# Altium schematic symbol library memory.SCHLIB: 86 symbols
Pins are listed as number, name and electrical type; pins without a type are passive.

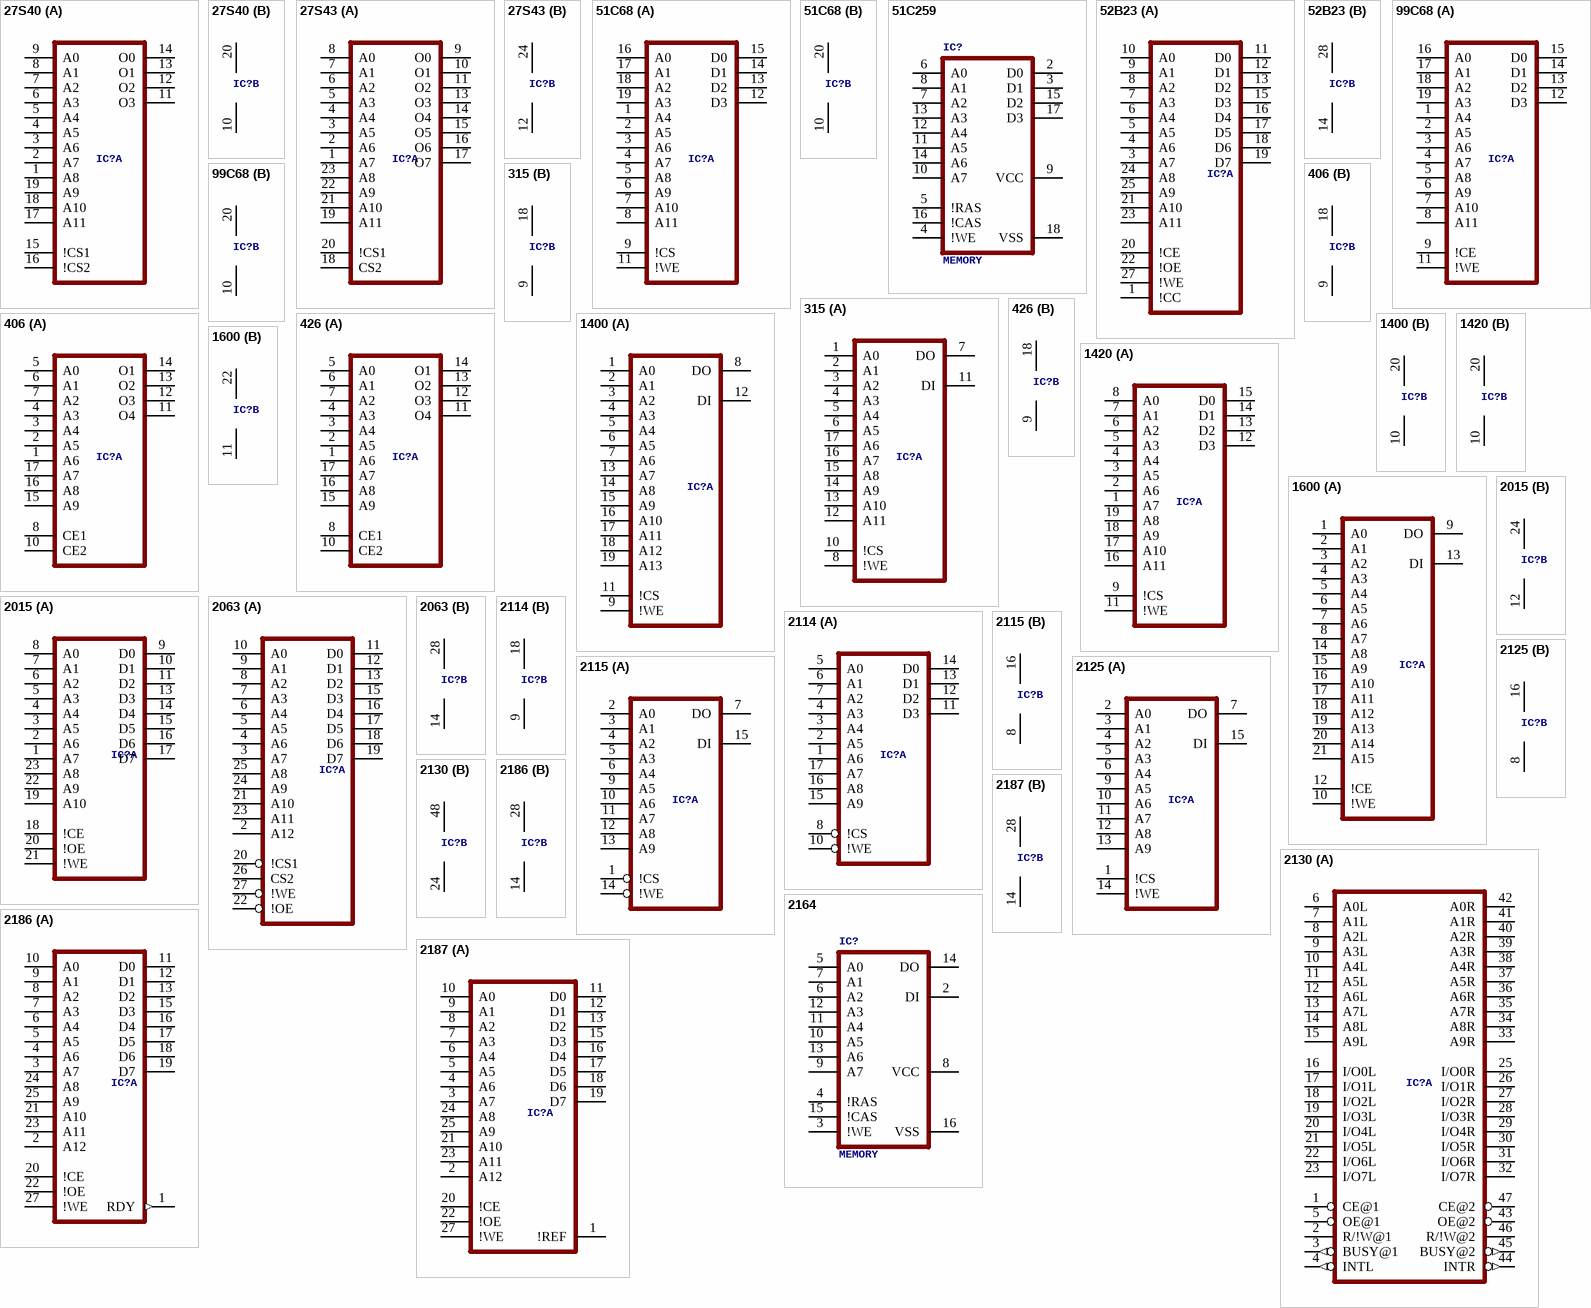
[diagram p0: symbols 27S40 to 2187]

## 27S40
designator IC?, comment MEMORY  (value not drawn)
footprint DIL20
part A pins: 1 A8, 2 A7, 3 A6, 4 A5, 5 A4, 6 A3, 7 A2, 8 A1, 9 A0, 11 O3 (oc), 12 O2 (oc), 13 O1 (oc), 14 O0 (oc), 15 !CS1, 16 !CS2, 17 A11, 18 A10, 19 A9
part B pins: 10 GND (power), 20 VCC (power)

## 27S43
designator IC?, comment MEMORY  (value not drawn)
footprint DIL24
part A pins: 1 A7, 2 A6, 3 A5, 4 A4, 5 A3, 6 A2, 7 A1, 8 A0, 9 O0 (hiz), 10 O1 (hiz), 11 O2 (hiz), 13 O3 (hiz), 14 O4 (hiz), 15 O5 (hiz), 16 O6 (hiz), 17 O7 (hiz), 18 CS2, 19 A11, 20 !CS1, 21 A10, 22 A9, 23 A8
part B pins: 12 GND (power), 24 VCC (power)

## 51C68
designator IC?, comment MEMORY  (value not drawn)
footprint DIL20
part A pins: 1 A4, 2 A5, 3 A6, 4 A7, 5 A8, 6 A9, 7 A10, 8 A11, 9 !CS, 11 !WE, 12 D3, 13 D2, 14 D1, 15 D0, 16 A0, 17 A1, 18 A2, 19 A3
part B pins: 10 GND (power), 20 VCC (power)

## 51C259
designator IC?, comment MEMORY
footprint DIL18
pins: 2 D0, 3 D1, 4 !WE, 5 !RAS, 6 A0, 7 A2, 8 A1, 9 VCC (power), 10 A7, 11 A5, 12 A4, 13 A3, 14 A6, 15 D2, 16 !CAS, 17 D3, 18 VSS (power)

## 52B23
designator IC?, comment MEMORY  (value not drawn)
footprint DIL28
part A pins: 1 !CC, 3 A7, 4 A6, 5 A5, 6 A4, 7 A3, 8 A2, 9 A1, 10 A0, 11 D0, 12 D1, 13 D2, 15 D3, 16 D4, 17 D5, 18 D6, 19 D7, 20 !CE, 21 A10, 22 !OE, 23 A11, 24 A8, 25 A9, 27 !WE
part B pins: 14 GND (power), 28 VCC (power)

## 99C68
designator IC?, comment MEMORY  (value not drawn)
footprint DIL20
part A pins: 1 A4, 2 A5, 3 A6, 4 A7, 5 A8, 6 A9, 7 A10, 8 A11, 9 !CE, 11 !WE, 12 D3, 13 D2, 14 D1, 15 D0, 16 A0, 17 A1, 18 A2, 19 A3
part B pins: 10 GND (power), 20 VCC (power)

## 315
designator IC?, comment MEMORY  (value not drawn)
footprint DIL18
part A pins: 1 A0, 2 A1, 3 A2, 4 A3, 5 A4, 6 A5, 7 DO (hiz), 8 !WE, 10 !CS, 11 DI, 12 A11, 13 A10, 14 A9, 15 A8, 16 A7, 17 A6
part B pins: 9 GND (power), 18 VCC (power)

## 406
designator IC?, comment MEMORY  (value not drawn)
footprint DIL18
part A pins: 1 A6, 2 A5, 3 A4, 4 A3, 5 A0, 6 A1, 7 A2, 8 CE1, 10 CE2, 11 O4 (oc), 12 O3 (oc), 13 O2 (oc), 14 O1 (oc), 15 A9, 16 A8, 17 A7
part B pins: 9 GND (power), 18 VCC (power)

## 426
designator IC?, comment MEMORY  (value not drawn)
footprint DIL18
part A pins: 1 A6, 2 A5, 3 A4, 4 A3, 5 A0, 6 A1, 7 A2, 8 CE1, 10 CE2, 11 O4 (hiz), 12 O3 (hiz), 13 O2 (hiz), 14 O1 (hiz), 15 A9, 16 A8, 17 A7
part B pins: 9 GND (power), 18 VCC (power)

## 1400
designator IC?, comment MEMORY  (value not drawn)
footprint DIL20
part A pins: 1 A0, 2 A1, 3 A2, 4 A3, 5 A4, 6 A5, 7 A6, 8 DO (hiz), 9 !WE, 11 !CS, 12 DI, 13 A7, 14 A8, 15 A9, 16 A10, 17 A11, 18 A12, 19 A13
part B pins: 10 GND (power), 20 VCC (power)

## 1420
designator IC?, comment MEMORY  (value not drawn)
footprint DIL20
part A pins: 1 A7, 2 A6, 3 A5, 4 A4, 5 A3, 6 A2, 7 A1, 8 A0, 9 !CS, 11 !WE, 12 D3, 13 D2, 14 D1, 15 D0, 16 A11, 17 A10, 18 A9, 19 A8
part B pins: 10 GND (power), 20 VCC (power)

## 1600
designator IC?, comment MEMORY  (value not drawn)
footprint DIL22-3
part A pins: 1 A0, 2 A1, 3 A2, 4 A3, 5 A4, 6 A5, 7 A6, 8 A7, 9 DO (hiz), 10 !WE, 12 !CE, 13 DI, 14 A8, 15 A9, 16 A10, 17 A11, 18 A12, 19 A13, 20 A14, 21 A15
part B pins: 11 GND (power), 22 VCC (power)

## 2015
designator IC?, comment MEMORY  (value not drawn)
footprint DIL24
part A pins: 1 A7, 2 A6, 3 A5, 4 A4, 5 A3, 6 A2, 7 A1, 8 A0, 9 D0, 10 D1, 11 D2, 13 D3, 14 D4, 15 D5, 16 D6, 17 D7, 18 !CE, 19 A10, 20 !OE, 21 !WE, 22 A9, 23 A8
part B pins: 12 GND (power), 24 VCC (power)

## 2063
designator IC?, comment MEMORY  (value not drawn)
footprint DIL28
part A pins: 2 A12, 3 A7, 4 A6, 5 A5, 6 A4, 7 A3, 8 A2, 9 A1, 10 A0, 11 D0, 12 D1, 13 D2, 15 D3, 16 D4, 17 D5, 18 D6, 19 D7, 20 !CS1, 21 A10, 22 !OE, 23 A11, 24 A9, 25 A8, 26 CS2, 27 !WE
part B pins: 14 GND (power), 28 VCC (power)

## 2114
designator IC?, comment MEMORY  (value not drawn)
footprint DIL18
part A pins: 1 A6, 2 A5, 3 A4, 4 A3, 5 A0, 6 A1, 7 A2, 8 !CS, 10 !WE, 11 D3, 12 D2, 13 D1, 14 D0, 15 A9, 16 A8, 17 A7
part B pins: 9 GND (power), 18 VCC (power)

## 2115
designator IC?, comment MEMORY  (value not drawn)
footprint DIL16
part A pins: 1 !CS, 2 A0, 3 A1, 4 A2, 5 A3, 6 A4, 7 DO (oc), 9 A5, 10 A6, 11 A7, 12 A8, 13 A9, 14 !WE, 15 DI
part B pins: 8 GND (power), 16 VCC (power)

## 2125
designator IC?, comment MEMORY  (value not drawn)
footprint DIL16
part A pins: 1 !CS, 2 A0, 3 A1, 4 A2, 5 A3, 6 A4, 7 DO (hiz), 9 A5, 10 A6, 11 A7, 12 A8, 13 A9, 14 !WE, 15 DI
part B pins: 8 GND (power), 16 VCC (power)

## 2130
designator IC?, comment MEMORY  (value not drawn)
footprint DIL48
part A pins: 1 CE@1, 2 R/!W@1, 3 BUSY@1 (out), 4 INTL (out), 5 OE@1, 6 A0L, 7 A1L, 8 A2L, 9 A3L, 10 A4L, 11 A5L, 12 A6L, 13 A7L, 14 A8L, 15 A9L, 16 I/O0L, 17 I/O1L, 18 I/O2L, 19 I/O3L, 20 I/O4L, 21 I/O5L, 22 I/O6L, 23 I/O7L, 25 I/O0R, 26 I/O1R, 27 I/O2R, 28 I/O3R, 29 I/O4R, 30 I/O5R, 31 I/O6R, 32 I/O7R, 33 A9R, 34 A8R, 35 A7R, 36 A6R, 37 A5R, 38 A4R, 39 A3R, 40 A2R, 41 A1R, 42 A0R, 43 OE@2, 44 INTR (out), 45 BUSY@2 (out), 46 R/!W@2, 47 CE@2
part B pins: 24 GND (power), 48 VCC (power)

## 2164
designator IC?, comment MEMORY
footprint DIL16
pins: 2 DI, 3 !WE, 4 !RAS, 5 A0, 6 A2, 7 A1, 8 VCC (power), 9 A7, 10 A5, 11 A4, 12 A3, 13 A6, 14 DO (hiz), 15 !CAS, 16 VSS (power)

## 2186
designator IC?, comment MEMORY  (value not drawn)
footprint DIL28
part A pins: 1 RDY (out), 2 A12, 3 A7, 4 A6, 5 A5, 6 A4, 7 A3, 8 A2, 9 A1, 10 A0, 11 D0, 12 D1, 13 D2, 15 D3, 16 D4, 17 D5, 18 D6, 19 D7, 20 !CE, 21 A10, 22 !OE, 23 A11, 24 A8, 25 A9, 27 !WE
part B pins: 14 GND (power), 28 VCC (power)

## 2187
designator IC?, comment MEMORY  (value not drawn)
footprint DIL28
part A pins: 1 !REF, 2 A12, 3 A7, 4 A6, 5 A5, 6 A4, 7 A3, 8 A2, 9 A1, 10 A0, 11 D0, 12 D1, 13 D2, 15 D3, 16 D4, 17 D5, 18 D6, 19 D7, 20 !CE, 21 A10, 22 !OE, 23 A11, 24 A8, 25 A9, 27 !WE
part B pins: 14 GND (power), 28 VCC (power)

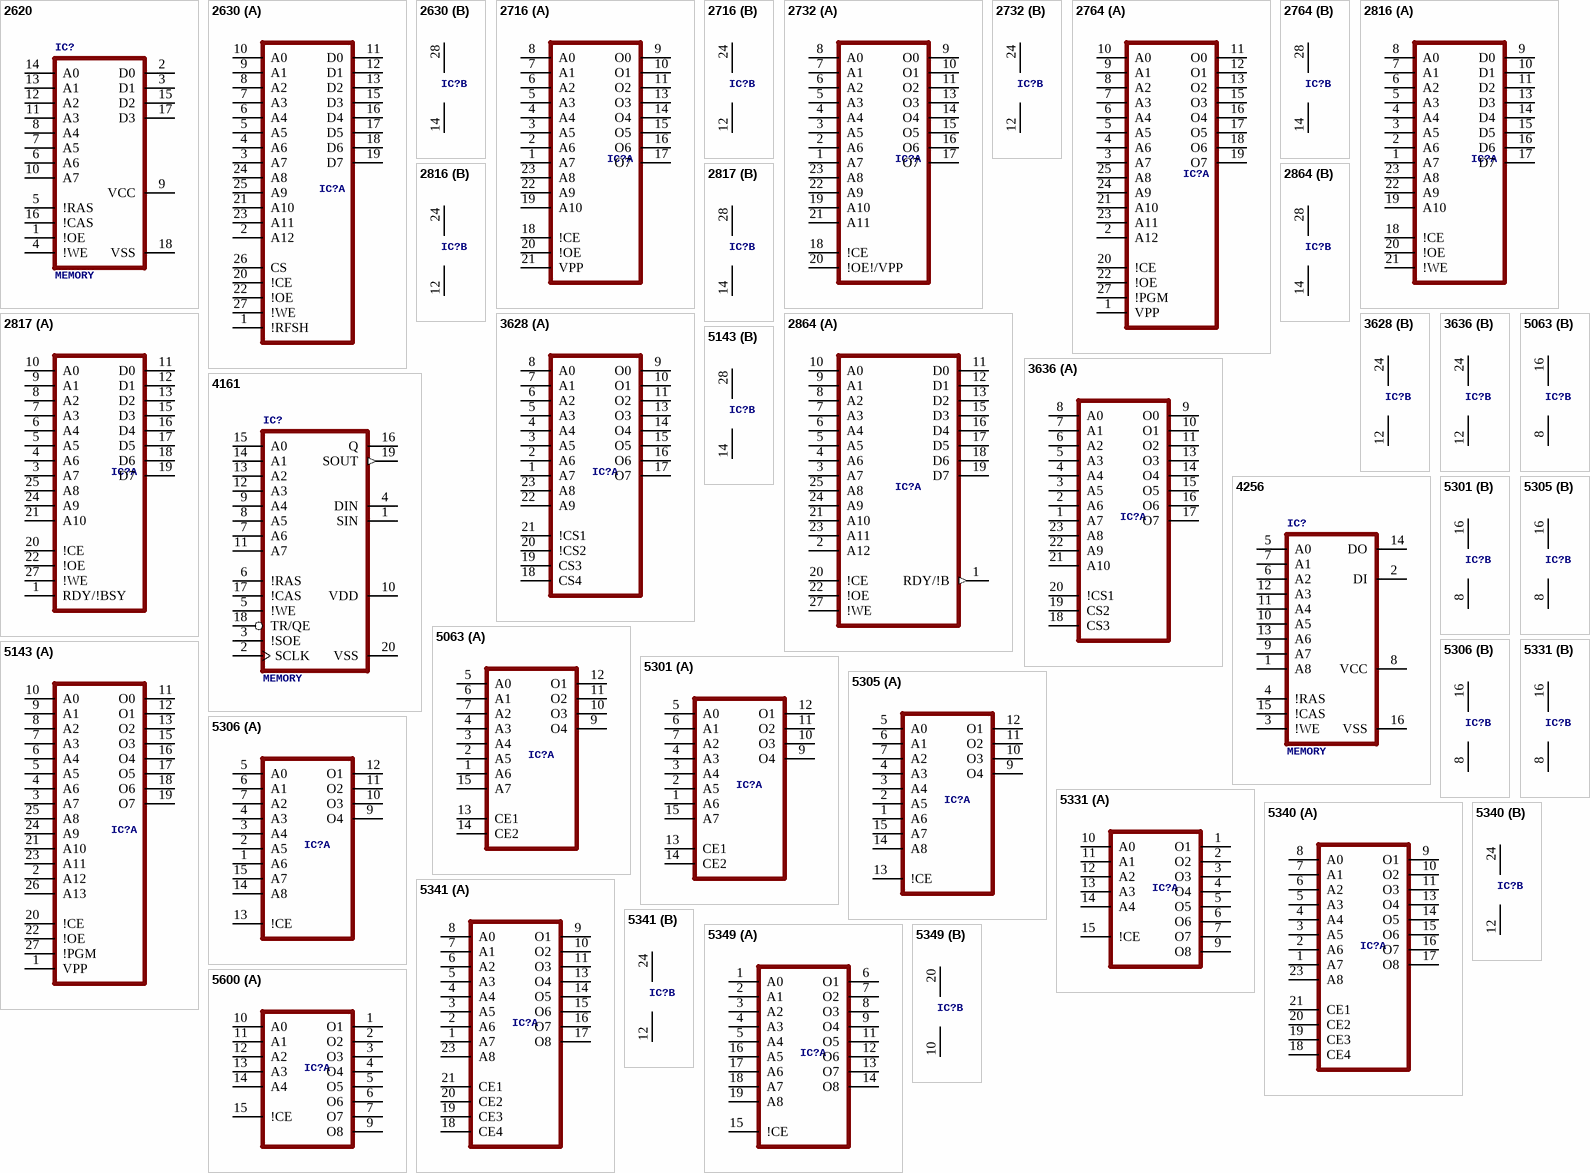
[diagram p1: symbols 2620 to 5600]

## 2620
designator IC?, comment MEMORY
footprint DIL18
pins: 1 !OE, 2 D0, 3 D1, 4 !WE, 5 !RAS, 6 A6, 7 A5, 8 A4, 9 VCC (power), 10 A7, 11 A3, 12 A2, 13 A1, 14 A0, 15 D2, 16 !CAS, 17 D3, 18 VSS (power)

## 2630
designator IC?, comment MEMORY  (value not drawn)
footprint DIL28
part A pins: 1 !RFSH, 2 A12, 3 A7, 4 A6, 5 A5, 6 A4, 7 A3, 8 A2, 9 A1, 10 A0, 11 D0, 12 D1, 13 D2, 15 D3, 16 D4, 17 D5, 18 D6, 19 D7, 20 !CE, 21 A10, 22 !OE, 23 A11, 24 A8, 25 A9, 26 CS, 27 !WE
part B pins: 14 GND (power), 28 VCC (power)

## 2716
designator IC?, comment MEMORY  (value not drawn)
footprint DIL24
part A pins: 1 A7, 2 A6, 3 A5, 4 A4, 5 A3, 6 A2, 7 A1, 8 A0, 9 O0 (hiz), 10 O1 (hiz), 11 O2 (hiz), 13 O3 (hiz), 14 O4 (hiz), 15 O5 (hiz), 16 O6 (hiz), 17 O7 (hiz), 18 !CE, 19 A10, 20 !OE, 21 VPP, 22 A9, 23 A8
part B pins: 12 GND (power), 24 VCC (power)

## 2732
designator IC?, comment MEMORY  (value not drawn)
footprint DIL24
part A pins: 1 A7, 2 A6, 3 A5, 4 A4, 5 A3, 6 A2, 7 A1, 8 A0, 9 O0 (hiz), 10 O1 (hiz), 11 O2 (hiz), 13 O3 (hiz), 14 O4 (hiz), 15 O5 (hiz), 16 O6 (hiz), 17 O7 (hiz), 18 !CE, 19 A10, 20 !OE!/VPP, 21 A11, 22 A9, 23 A8
part B pins: 12 GND (power), 24 VCC (power)

## 2764
designator IC?, comment MEMORY  (value not drawn)
footprint DIL28
part A pins: 1 VPP, 2 A12, 3 A7, 4 A6, 5 A5, 6 A4, 7 A3, 8 A2, 9 A1, 10 A0, 11 O0 (hiz), 12 O1 (hiz), 13 O2 (hiz), 15 O3 (hiz), 16 O4 (hiz), 17 O5 (hiz), 18 O6 (hiz), 19 O7 (hiz), 20 !CE, 21 A10, 22 !OE, 23 A11, 24 A9, 25 A8, 27 !PGM
part B pins: 14 GND (power), 28 VCC (power)

## 2816
designator IC?, comment MEMORY  (value not drawn)
footprint DIL24
part A pins: 1 A7, 2 A6, 3 A5, 4 A4, 5 A3, 6 A2, 7 A1, 8 A0, 9 D0, 10 D1, 11 D2, 13 D3, 14 D4, 15 D5, 16 D6, 17 D7, 18 !CE, 19 A10, 20 !OE, 21 !WE, 22 A9, 23 A8
part B pins: 12 GND (power), 24 VCC (power)

## 2817
designator IC?, comment MEMORY  (value not drawn)
footprint DIL28
part A pins: 1 RDY/!BSY, 3 A7, 4 A6, 5 A5, 6 A4, 7 A3, 8 A2, 9 A1, 10 A0, 11 D0, 12 D1, 13 D2, 15 D3, 16 D4, 17 D5, 18 D6, 19 D7, 20 !CE, 21 A10, 22 !OE, 24 A9, 25 A8, 27 !WE
part B pins: 14 GND (power), 28 VCC (power)

## 2864
designator IC?, comment MEMORY  (value not drawn)
footprint DIL28
part A pins: 1 RDY/!B (out), 2 A12, 3 A7, 4 A6, 5 A5, 6 A4, 7 A3, 8 A2, 9 A1, 10 A0, 11 D0, 12 D1, 13 D2, 15 D3, 16 D4, 17 D5, 18 D6, 19 D7, 20 !CE, 21 A10, 22 !OE, 23 A11, 24 A9, 25 A8, 27 !WE
part B pins: 14 GND (power), 28 VCC (power)

## 3628
designator IC?, comment MEMORY  (value not drawn)
footprint DIL24
part A pins: 1 A7, 2 A6, 3 A5, 4 A4, 5 A3, 6 A2, 7 A1, 8 A0, 9 O0 (hiz), 10 O1 (hiz), 11 O2 (hiz), 13 O3 (hiz), 14 O4 (hiz), 15 O5 (hiz), 16 O6 (hiz), 17 O7 (hiz), 18 CS4, 19 CS3, 20 !CS2, 21 !CS1, 22 A9, 23 A8
part B pins: 12 GND (power), 24 VCC (power)

## 3636
designator IC?, comment MEMORY  (value not drawn)
footprint DIL24
part A pins: 1 A7, 2 A6, 3 A5, 4 A4, 5 A3, 6 A2, 7 A1, 8 A0, 9 O0 (hiz), 10 O1 (hiz), 11 O2 (hiz), 13 O3 (hiz), 14 O4 (hiz), 15 O5 (hiz), 16 O6 (hiz), 17 O7 (hiz), 18 CS3, 19 CS2, 20 !CS1, 21 A10, 22 A9, 23 A8
part B pins: 12 GND (power), 24 VCC (power)

## 4161
designator IC?, comment MEMORY
footprint DIL20
pins: 1 SIN, 2 SCLK, 3 !SOE, 4 DIN, 5 !WE, 6 !RAS, 7 A6, 8 A5, 9 A4, 10 VDD (power), 11 A7, 12 A3, 13 A2, 14 A1, 15 A0, 16 Q (hiz), 17 !CAS, 18 TR/QE, 19 SOUT (out), 20 VSS (power)

## 4256
designator IC?, comment MEMORY
footprint DIL16
pins: 1 A8, 2 DI, 3 !WE, 4 !RAS, 5 A0, 6 A2, 7 A1, 8 VCC (power), 9 A7, 10 A5, 11 A4, 12 A3, 13 A6, 14 DO (hiz), 15 !CAS, 16 VSS (power)

## 5063
designator IC?, comment MEMORY  (value not drawn)
footprint DIL16
part A pins: 1 A6, 2 A5, 3 A4, 4 A3, 5 A0, 6 A1, 7 A2, 9 O4 (oc), 10 O3 (oc), 11 O2 (oc), 12 O1 (oc), 13 CE1, 14 CE2, 15 A7
part B pins: 8 GND (power), 16 VCC (power)

## 5143
designator IC?, comment MEMORY  (value not drawn)
footprint DIL28
part A pins: 1 VPP, 2 A12, 3 A7, 4 A6, 5 A5, 6 A4, 7 A3, 8 A2, 9 A1, 10 A0, 11 O0 (hiz), 12 O1 (hiz), 13 O2 (hiz), 15 O3 (hiz), 16 O4 (hiz), 17 O5 (hiz), 18 O6 (hiz), 19 O7 (hiz), 20 !CE, 21 A10, 22 !OE, 23 A11, 24 A9, 25 A8, 26 A13, 27 !PGM
part B pins: 14 GND (power), 28 VCC (power)

## 5301
designator IC?, comment MEMORY  (value not drawn)
footprint DIL16
part A pins: 1 A6, 2 A5, 3 A4, 4 A3, 5 A0, 6 A1, 7 A2, 9 O4 (hiz), 10 O3 (hiz), 11 O2 (hiz), 12 O1 (hiz), 13 CE1, 14 CE2, 15 A7
part B pins: 8 GND (power), 16 VCC (power)

## 5305
designator IC?, comment MEMORY  (value not drawn)
footprint DIL16
part A pins: 1 A6, 2 A5, 3 A4, 4 A3, 5 A0, 6 A1, 7 A2, 9 O4 (oc), 10 O3 (oc), 11 O2 (oc), 12 O1 (oc), 13 !CE, 14 A8, 15 A7
part B pins: 8 GND (power), 16 VCC (power)

## 5306
designator IC?, comment MEMORY  (value not drawn)
footprint DIL16
part A pins: 1 A6, 2 A5, 3 A4, 4 A3, 5 A0, 6 A1, 7 A2, 9 O4 (hiz), 10 O3 (hiz), 11 O2 (hiz), 12 O1 (hiz), 13 !CE, 14 A8, 15 A7
part B pins: 8 GND (power), 16 VCC (power)

## 5331
designator IC?, comment MEMORY  (value not drawn)
footprint DIL16
part A pins: 1 O1 (hiz), 2 O2 (hiz), 3 O3 (hiz), 4 O4 (hiz), 5 O5 (hiz), 6 O6 (hiz), 7 O7 (hiz), 9 O8 (hiz), 10 A0, 11 A1, 12 A2, 13 A3, 14 A4, 15 !CE
part B pins: 8 GND (power), 16 VCC (power)

## 5340
designator IC?, comment MEMORY  (value not drawn)
footprint DIL24
part A pins: 1 A7, 2 A6, 3 A5, 4 A4, 5 A3, 6 A2, 7 A1, 8 A0, 9 O1 (oc), 10 O2 (oc), 11 O3 (oc), 13 O4 (oc), 14 O5 (oc), 15 O6 (oc), 16 O7 (oc), 17 O8 (oc), 18 CE4, 19 CE3, 20 CE2, 21 CE1, 23 A8
part B pins: 12 GND (power), 24 VCC (power)

## 5341
designator IC?, comment MEMORY  (value not drawn)
footprint DIL24
part A pins: 1 A7, 2 A6, 3 A5, 4 A4, 5 A3, 6 A2, 7 A1, 8 A0, 9 O1 (hiz), 10 O2 (hiz), 11 O3 (hiz), 13 O4 (hiz), 14 O5 (hiz), 15 O6 (hiz), 16 O7 (hiz), 17 O8 (hiz), 18 CE4, 19 CE3, 20 CE2, 21 CE1, 23 A8
part B pins: 12 GND (power), 24 VCC (power)

## 5349
designator IC?, comment MEMORY  (value not drawn)
footprint DIL20
part A pins: 1 A0, 2 A1, 3 A2, 4 A3, 5 A4, 6 O1 (hiz), 7 O2 (hiz), 8 O3 (hiz), 9 O4 (hiz), 11 O5 (hiz), 12 O6 (hiz), 13 O7 (hiz), 14 O8 (hiz), 15 !CE, 16 A5, 17 A6, 18 A7, 19 A8
part B pins: 10 GND (power), 20 VCC (power)

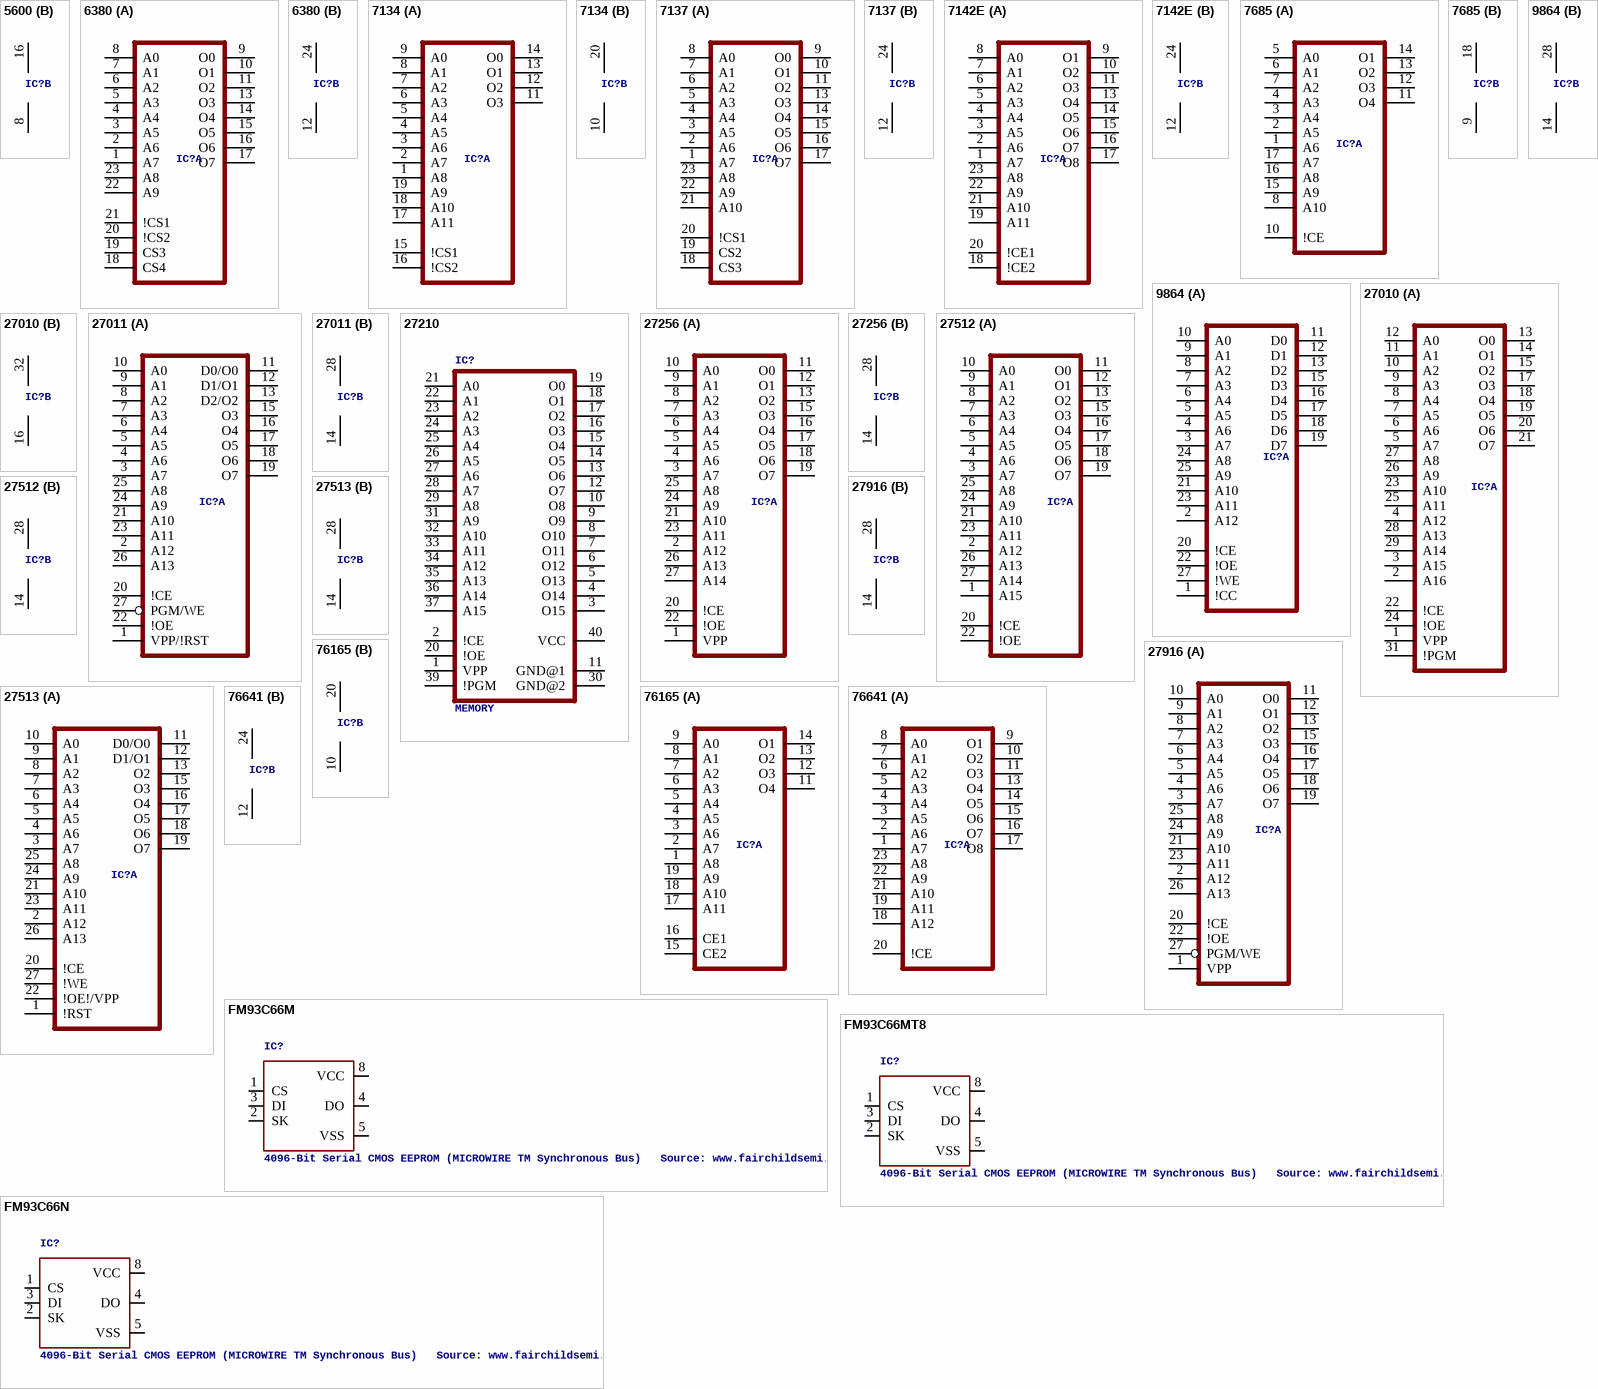
[diagram p2: symbols 5600 to FM93C66N]

## 5600
designator IC?, comment MEMORY  (value not drawn)
footprint DIL16
part A pins: 1 O1 (oc), 2 O2 (oc), 3 O3 (oc), 4 O4 (oc), 5 O5 (oc), 6 O6 (oc), 7 O7 (oc), 9 O8 (oc), 10 A0, 11 A1, 12 A2, 13 A3, 14 A4, 15 !CE
part B pins: 8 GND (power), 16 VCC (power)

## 6380
designator IC?, comment MEMORY  (value not drawn)
footprint DIL24
part A pins: 1 A7, 2 A6, 3 A5, 4 A4, 5 A3, 6 A2, 7 A1, 8 A0, 9 O0 (oc), 10 O1 (oc), 11 O2 (oc), 13 O3 (oc), 14 O4 (oc), 15 O5 (oc), 16 O6 (oc), 17 O7 (oc), 18 CS4, 19 CS3, 20 !CS2, 21 !CS1, 22 A9, 23 A8
part B pins: 12 GND (power), 24 VCC (power)

## 7134
designator IC?, comment MEMORY  (value not drawn)
footprint DIL20
part A pins: 1 A8, 2 A7, 3 A6, 4 A5, 5 A4, 6 A3, 7 A2, 8 A1, 9 A0, 11 O3 (hiz), 12 O2 (hiz), 13 O1 (hiz), 14 O0 (hiz), 15 !CS1, 16 !CS2, 17 A11, 18 A10, 19 A9
part B pins: 10 GND (power), 20 VCC (power)

## 7137
designator IC?, comment MEMORY  (value not drawn)
footprint DIL24
part A pins: 1 A7, 2 A6, 3 A5, 4 A4, 5 A3, 6 A2, 7 A1, 8 A0, 9 O0 (oc), 10 O1 (oc), 11 O2 (oc), 13 O3 (oc), 14 O4 (oc), 15 O5 (oc), 16 O6 (oc), 17 O7 (oc), 18 CS3, 19 CS2, 20 !CS1, 21 A10, 22 A9, 23 A8
part B pins: 12 GND (power), 24 VCC (power)

## 7142E
designator IC?, comment MEMORY  (value not drawn)
footprint DIL24
part A pins: 1 A7, 2 A6, 3 A5, 4 A4, 5 A3, 6 A2, 7 A1, 8 A0, 9 O1 (hiz), 10 O2 (hiz), 11 O3 (hiz), 13 O4 (hiz), 14 O5 (hiz), 15 O6 (hiz), 16 O7 (hiz), 17 O8 (hiz), 18 !CE2, 19 A11, 20 !CE1, 21 A10, 22 A9, 23 A8
part B pins: 12 GND (power), 24 VCC (power)

## 7685
designator IC?, comment MEMORY  (value not drawn)
footprint DIL18
part A pins: 1 A6, 2 A5, 3 A4, 4 A3, 5 A0, 6 A1, 7 A2, 8 A10, 10 !CE, 11 O4 (hiz), 12 O3 (hiz), 13 O2 (hiz), 14 O1 (hiz), 15 A9, 16 A8, 17 A7
part B pins: 9 GND (power), 18 VCC (power)

## 9864
designator IC?, comment MEMORY  (value not drawn)
footprint DIL28
part A pins: 1 !CC, 2 A12, 3 A7, 4 A6, 5 A5, 6 A4, 7 A3, 8 A2, 9 A1, 10 A0, 11 D0, 12 D1, 13 D2, 15 D3, 16 D4, 17 D5, 18 D6, 19 D7, 20 !CE, 21 A10, 22 !OE, 23 A11, 24 A8, 25 A9, 27 !WE
part B pins: 14 GND (power), 28 VCC (power)

## 27010
designator IC?, comment MEMORY  (value not drawn)
footprint DIL32
part A pins: 1 VPP, 2 A16, 3 A15, 4 A12, 5 A7, 6 A6, 7 A5, 8 A4, 9 A3, 10 A2, 11 A1, 12 A0, 13 O0 (hiz), 14 O1 (hiz), 15 O2 (hiz), 17 O3 (hiz), 18 O4 (hiz), 19 O5 (hiz), 20 O6 (hiz), 21 O7 (hiz), 22 !CE, 23 A10, 24 !OE, 25 A11, 26 A9, 27 A8, 28 A13, 29 A14, 31 !PGM
part B pins: 16 GND (power), 32 VCC (power)

## 27011
designator IC?, comment MEMORY  (value not drawn)
footprint DIL28
part A pins: 1 VPP/!RST, 2 A12, 3 A7, 4 A6, 5 A5, 6 A4, 7 A3, 8 A2, 9 A1, 10 A0, 11 D0/O0 (hiz), 12 D1/O1 (hiz), 13 D2/O2 (hiz), 15 O3 (hiz), 16 O4 (hiz), 17 O5 (hiz), 18 O6 (hiz), 19 O7 (hiz), 20 !CE, 21 A10, 22 !OE, 23 A11, 24 A9, 25 A8, 26 A13, 27 PGM/WE
part B pins: 14 GND (power), 28 VCC (power)

## 27210
designator IC?, comment MEMORY
footprint DIL40
pins: 1 VPP, 2 !CE, 3 O15 (hiz), 4 O14 (hiz), 5 O13 (hiz), 6 O12 (hiz), 7 O11 (hiz), 8 O10 (hiz), 9 O9 (hiz), 10 O8 (hiz), 11 GND@1 (power), 12 O7 (hiz), 13 O6 (hiz), 14 O5 (hiz), 15 O4 (hiz), 16 O3 (hiz), 17 O2 (hiz), 18 O1 (hiz), 19 O0 (hiz), 20 !OE, 21 A0, 22 A1, 23 A2, 24 A3, 25 A4, 26 A5, 27 A6, 28 A7, 29 A8, 30 GND@2 (power), 31 A9, 32 A10, 33 A11, 34 A12, 35 A13, 36 A14, 37 A15, 39 !PGM, 40 VCC (power)

## 27256
designator IC?, comment MEMORY  (value not drawn)
footprint DIL28
part A pins: 1 VPP, 2 A12, 3 A7, 4 A6, 5 A5, 6 A4, 7 A3, 8 A2, 9 A1, 10 A0, 11 O0 (hiz), 12 O1 (hiz), 13 O2 (hiz), 15 O3 (hiz), 16 O4 (hiz), 17 O5 (hiz), 18 O6 (hiz), 19 O7 (hiz), 20 !CE, 21 A10, 22 !OE, 23 A11, 24 A9, 25 A8, 26 A13, 27 A14
part B pins: 14 GND (power), 28 VCC (power)

## 27512
designator IC?, comment MEMORY  (value not drawn)
footprint DIL28
part A pins: 1 A15, 2 A12, 3 A7, 4 A6, 5 A5, 6 A4, 7 A3, 8 A2, 9 A1, 10 A0, 11 O0 (hiz), 12 O1 (hiz), 13 O2 (hiz), 15 O3 (hiz), 16 O4 (hiz), 17 O5 (hiz), 18 O6 (hiz), 19 O7 (hiz), 20 !CE, 21 A10, 22 !OE, 23 A11, 24 A9, 25 A8, 26 A13, 27 A14
part B pins: 14 GND (power), 28 VCC (power)

## 27513
designator IC?, comment MEMORY  (value not drawn)
footprint DIL28
part A pins: 1 !RST, 2 A12, 3 A7, 4 A6, 5 A5, 6 A4, 7 A3, 8 A2, 9 A1, 10 A0, 11 D0/O0 (hiz), 12 D1/O1 (hiz), 13 O2 (hiz), 15 O3 (hiz), 16 O4 (hiz), 17 O5 (hiz), 18 O6 (hiz), 19 O7 (hiz), 20 !CE, 21 A10, 22 !OE!/VPP, 23 A11, 24 A9, 25 A8, 26 A13, 27 !WE
part B pins: 14 GND (power), 28 VCC (power)

## 27916
designator IC?, comment MEMORY  (value not drawn)
footprint DIL28
part A pins: 1 VPP, 2 A12, 3 A7, 4 A6, 5 A5, 6 A4, 7 A3, 8 A2, 9 A1, 10 A0, 11 O0 (hiz), 12 O1 (hiz), 13 O2 (hiz), 15 O3 (hiz), 16 O4 (hiz), 17 O5 (hiz), 18 O6 (hiz), 19 O7 (hiz), 20 !CE, 21 A10, 22 !OE, 23 A11, 24 A9, 25 A8, 26 A13, 27 PGM/WE
part B pins: 14 GND (power), 28 VCC (power)

## 76165
designator IC?, comment MEMORY  (value not drawn)
footprint DIL20
part A pins: 1 A8, 2 A7, 3 A6, 4 A5, 5 A4, 6 A3, 7 A2, 8 A1, 9 A0, 11 O4 (hiz), 12 O3 (hiz), 13 O2 (hiz), 14 O1 (hiz), 15 CE2, 16 CE1, 17 A11, 18 A10, 19 A9
part B pins: 10 GND (power), 20 VCC (power)

## 76641
designator IC?, comment MEMORY  (value not drawn)
footprint DIL24
part A pins: 1 A7, 2 A6, 3 A5, 4 A4, 5 A3, 6 A2, 7 A1, 8 A0, 9 O1 (hiz), 10 O2 (hiz), 11 O3 (hiz), 13 O4 (hiz), 14 O5 (hiz), 15 O6 (hiz), 16 O7 (hiz), 17 O8 (hiz), 18 A12, 19 A11, 20 !CE, 21 A10, 22 A9, 23 A8
part B pins: 12 GND (power), 24 VCC (power)

## FM93C66M
designator IC?, comment 4096-Bit Serial CMOS EEPROM (MICROWIRE TM Synchronous Bus)   Source: www.fairchildsemi.com
footprint M8
pins: 1 CS, 2 SK, 3 DI, 4 DO (hiz), 5 VSS (power), 8 VCC (power)

## FM93C66MT8
designator IC?, comment 4096-Bit Serial CMOS EEPROM (MICROWIRE TM Synchronous Bus)   Source: www.fairchildsemi.com
footprint TSSOP8
pins: 1 CS, 2 SK, 3 DI, 4 DO (hiz), 5 VSS (power), 8 VCC (power)

## FM93C66N
designator IC?, comment 4096-Bit Serial CMOS EEPROM (MICROWIRE TM Synchronous Bus)   Source: www.fairchildsemi.com
footprint DIL08
pins: 1 CS, 2 SK, 3 DI, 4 DO (hiz), 5 VSS (power), 8 VCC (power)

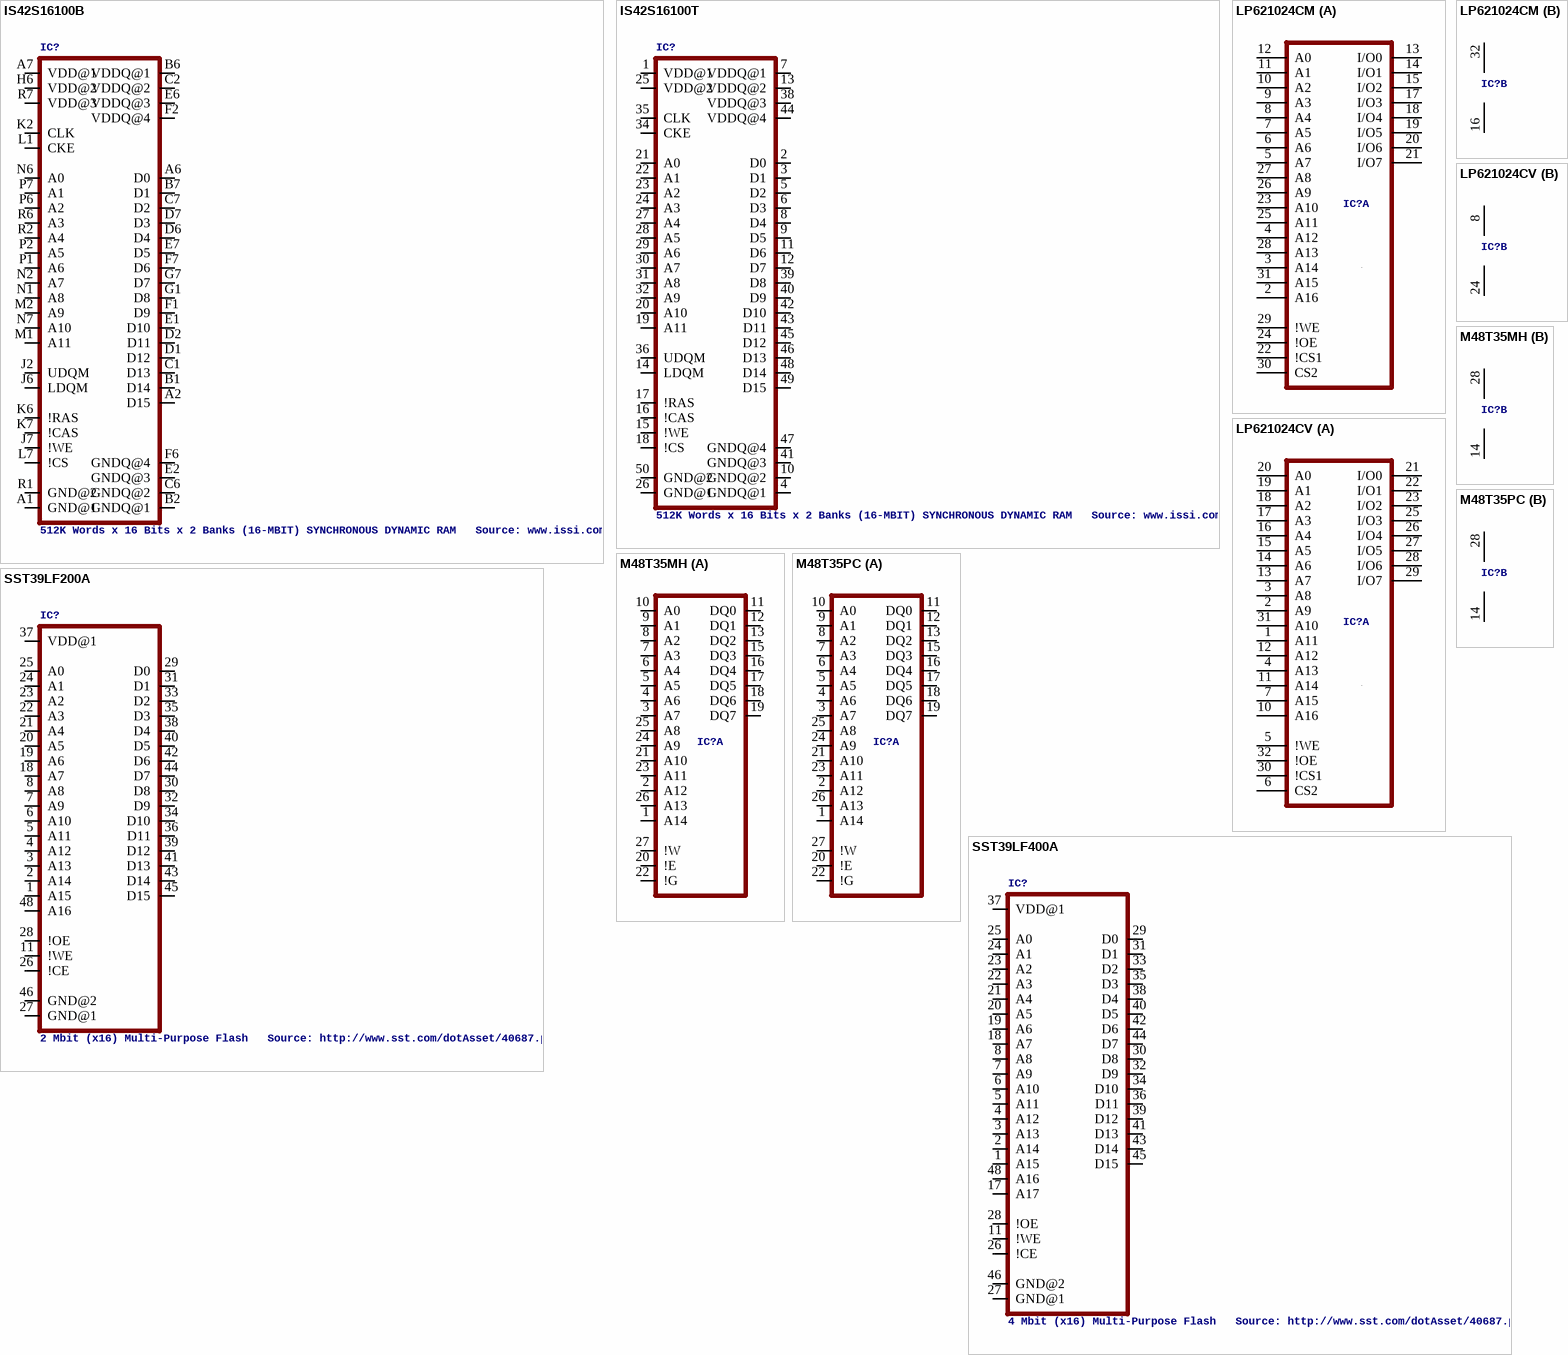
[diagram p3: symbols IS42S16100B to SST39LF400A]

## IS42S16100B
designator IC?, comment 512K Words x 16 Bits x 2 Banks (16-MBIT) SYNCHRONOUS DYNAMIC RAM   Source: www.issi.com .. IS42S16100.pdf
footprint MBGA60
pins: A1 GND@1 (power), A2 D15, A6 D0, A7 VDD@1 (power), B1 D14, B2 GNDQ@1 (power), B6 VDDQ@1 (power), B7 D1, C1 D13, C2 VDDQ@2 (power), C6 GNDQ@2 (power), C7 D2, D1 D12, D2 D11, D6 D4, D7 D3, E1 D10, E2 GNDQ@3 (power), E6 VDDQ@3 (power), E7 D5, F1 D9, F2 VDDQ@4 (power), F6 GNDQ@4 (power), F7 D6, G1 D8, G7 D7, H6 VDD@2 (power), J2 UDQM, J6 LDQM, J7 !WE, K2 CLK, K6 !RAS, K7 !CAS, L1 CKE, L7 !CS, M1 A11, M2 A9, N1 A8, N2 A7, N6 A0, N7 A10, P1 A6, P2 A5, P6 A2, P7 A1, R1 GND@2 (power), R2 A4, R6 A3, R7 VDD@3 (power)

## IS42S16100T
designator IC?, comment 512K Words x 16 Bits x 2 Banks (16-MBIT) SYNCHRONOUS DYNAMIC RAM   Source: www.issi.com .. IS42S16100.pdf
footprint TSOP50-II
pins: 1 VDD@1 (power), 2 D0, 3 D1, 4 GNDQ@1 (power), 5 D2, 6 D3, 7 VDDQ@1 (power), 8 D4, 9 D5, 10 GNDQ@2 (power), 11 D6, 12 D7, 13 VDDQ@2 (power), 14 LDQM, 15 !WE, 16 !CAS, 17 !RAS, 18 !CS, 19 A11, 20 A10, 21 A0, 22 A1, 23 A2, 24 A3, 25 VDD@2 (power), 26 GND@1 (power), 27 A4, 28 A5, 29 A6, 30 A7, 31 A8, 32 A9, 34 CKE, 35 CLK, 36 UDQM, 38 VDDQ@3 (power), 39 D8, 40 D9, 41 GNDQ@3 (power), 42 D10, 43 D11, 44 VDDQ@4 (power), 45 D12, 46 D13, 47 GNDQ@4 (power), 48 D14, 49 D15, 50 GND@2 (power)

## LP621024CM
designator IC?, comment MEMORY  (value not drawn)
footprint SOP32L
part A pins: 1 NC, 2 A16, 3 A14, 4 A12, 5 A7, 6 A6, 7 A5, 8 A4, 9 A3, 10 A2, 11 A1, 12 A0, 13 I/O0, 14 I/O1, 15 I/O2, 17 I/O3, 18 I/O4, 19 I/O5, 20 I/O6, 21 I/O7, 22 !CS1, 23 A10, 24 !OE, 25 A11, 26 A9, 27 A8, 28 A13, 29 !WE, 30 CS2, 31 A15
part B pins: 16 GND (power), 32 VCC (power)

## LP621024CV
designator IC?, comment MEMORY  (value not drawn)
footprint TSOP32
part A pins: 1 A11, 2 A9, 3 A8, 4 A13, 5 !WE, 6 CS2, 7 A15, 9 NC, 10 A16, 11 A14, 12 A12, 13 A7, 14 A6, 15 A5, 16 A4, 17 A3, 18 A2, 19 A1, 20 A0, 21 I/O0, 22 I/O1, 23 I/O2, 25 I/O3, 26 I/O4, 27 I/O5, 28 I/O6, 29 I/O7, 30 !CS1, 31 A10, 32 !OE
part B pins: 8 VCC (power), 24 GND (power)

## M48T35MH
designator IC?, comment 5V, 256 Kbit (32 Kb x8) TIMEKEEPERÂ® SRAM   Source: http://www.st.com/stonline/books/pdf/docs/2611.pdf#search=%22M48T35%22  (value not drawn)
footprint SOH28-SNAPHAT
part A pins: 1 A14, 2 A12, 3 A7, 4 A6, 5 A5, 6 A4, 7 A3, 8 A2, 9 A1, 10 A0, 11 DQ0, 12 DQ1, 13 DQ2, 15 DQ3, 16 DQ4, 17 DQ5, 18 DQ6, 19 DQ7, 20 !E, 21 A10, 22 !G, 23 A11, 24 A9, 25 A8, 26 A13, 27 !W
part B pins: 14 GND (power), 28 VCC (power)

## M48T35PC
designator IC?, comment 5V, 256 Kbit (32 Kb x8) TIMEKEEPERÂ® SRAM   Source: http://www.st.com/stonline/books/pdf/docs/2611.pdf#search=%22M48T35%22  (value not drawn)
footprint PCDIP28-CAPHAT
part A pins: 1 A14, 2 A12, 3 A7, 4 A6, 5 A5, 6 A4, 7 A3, 8 A2, 9 A1, 10 A0, 11 DQ0, 12 DQ1, 13 DQ2, 15 DQ3, 16 DQ4, 17 DQ5, 18 DQ6, 19 DQ7, 20 !E, 21 A10, 22 !G, 23 A11, 24 A9, 25 A8, 26 A13, 27 !W
part B pins: 14 GND (power), 28 VCC (power)

## SST39LF200A
designator IC?, comment 2 Mbit (x16) Multi-Purpose Flash   Source: http://www.sst.com/dotAsset/40687.pdf
footprint TSOP48
pins: 1 A15, 2 A14, 3 A13, 4 A12, 5 A11, 6 A10, 7 A9, 8 A8, 11 !WE, 18 A7, 19 A6, 20 A5, 21 A4, 22 A3, 23 A2, 24 A1, 25 A0, 26 !CE, 27 GND@1 (power), 28 !OE, 29 D0, 30 D8, 31 D1, 32 D9, 33 D2, 34 D10, 35 D3, 36 D11, 37 VDD@1 (power), 38 D4, 39 D12, 40 D5, 41 D13, 42 D6, 43 D14, 44 D7, 45 D15, 46 GND@2 (power), 48 A16

## SST39LF400A
designator IC?, comment 4 Mbit (x16) Multi-Purpose Flash   Source: http://www.sst.com/dotAsset/40687.pdf
footprint TSOP48
pins: 1 A15, 2 A14, 3 A13, 4 A12, 5 A11, 6 A10, 7 A9, 8 A8, 11 !WE, 17 A17, 18 A7, 19 A6, 20 A5, 21 A4, 22 A3, 23 A2, 24 A1, 25 A0, 26 !CE, 27 GND@1 (power), 28 !OE, 29 D0, 30 D8, 31 D1, 32 D9, 33 D2, 34 D10, 35 D3, 36 D11, 37 VDD@1 (power), 38 D4, 39 D12, 40 D5, 41 D13, 42 D6, 43 D14, 44 D7, 45 D15, 46 GND@2 (power), 48 A16

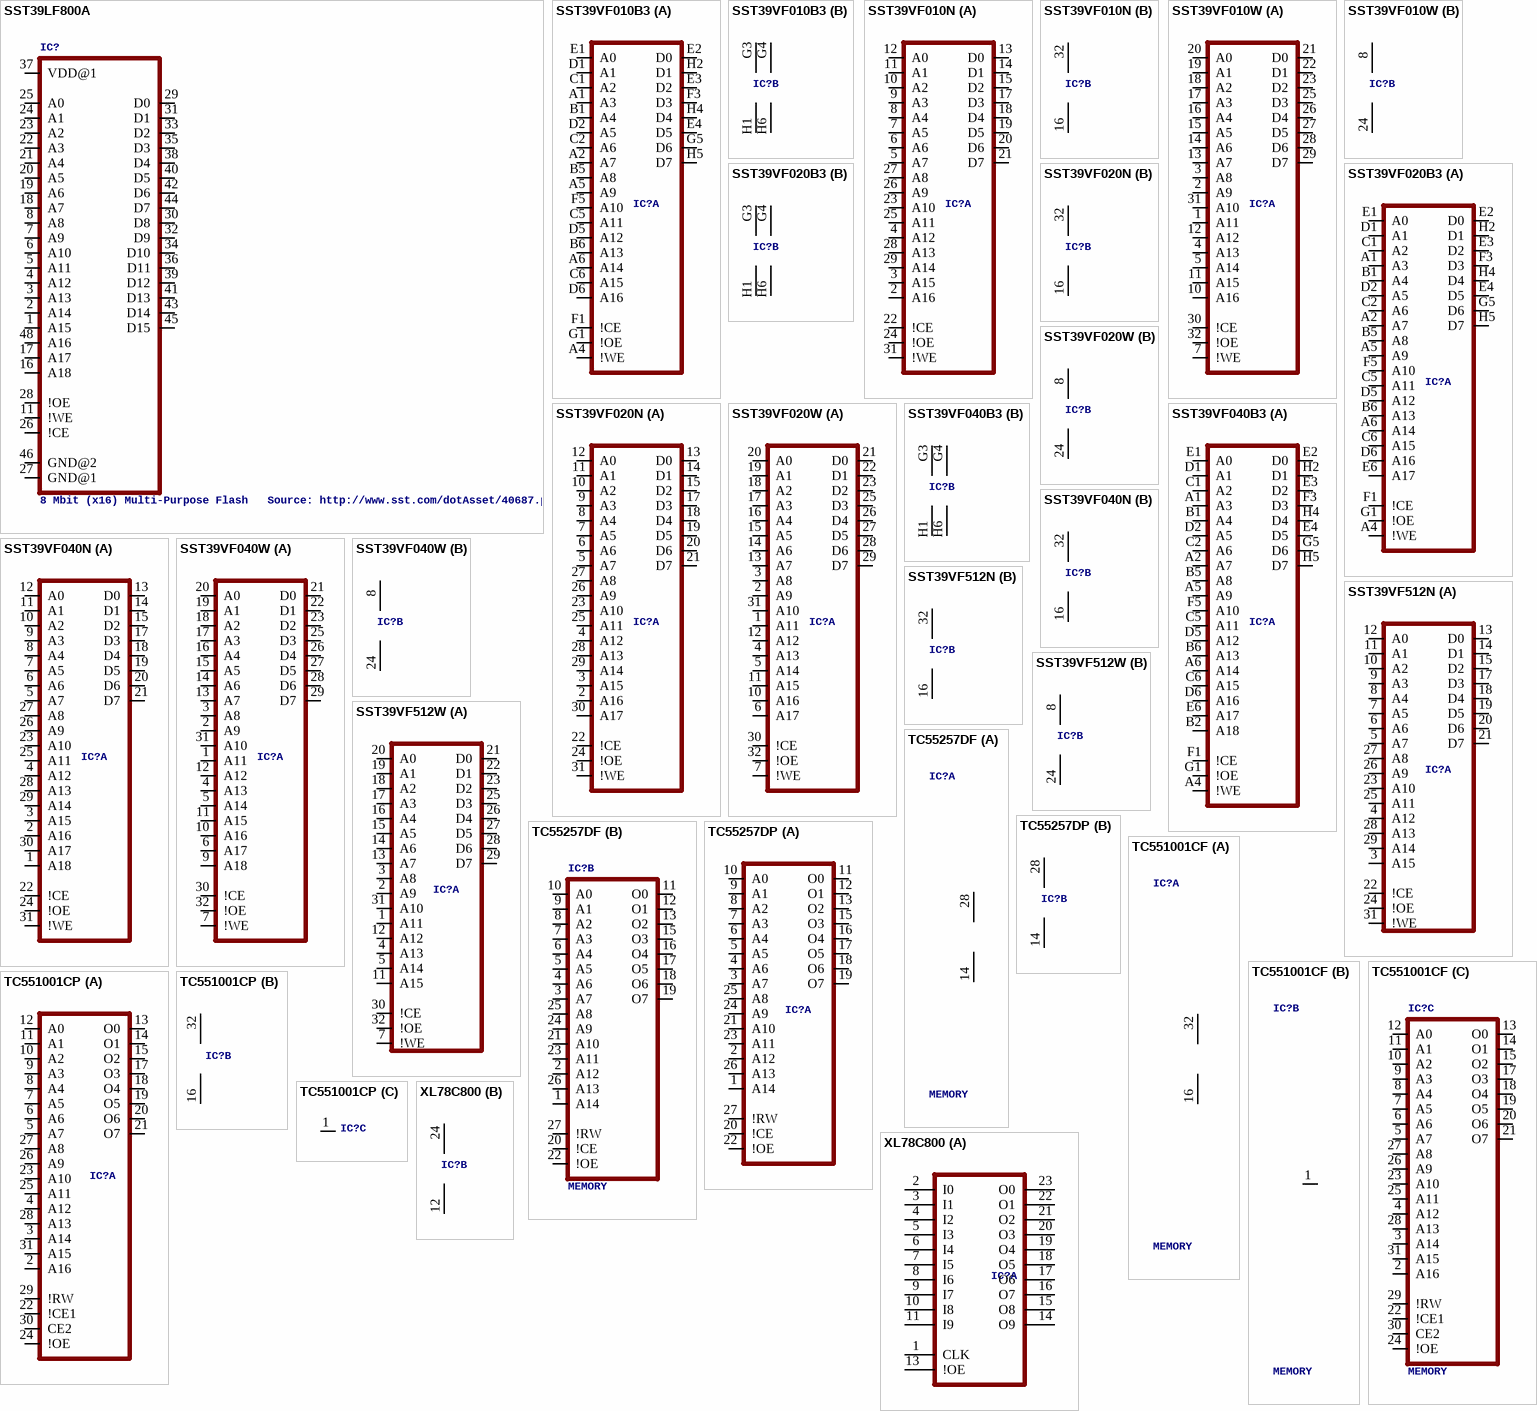
[diagram p4: symbols SST39LF800A to XL78C800]

## SST39LF800A
designator IC?, comment 8 Mbit (x16) Multi-Purpose Flash   Source: http://www.sst.com/dotAsset/40687.pdf
footprint TSOP48
pins: 1 A15, 2 A14, 3 A13, 4 A12, 5 A11, 6 A10, 7 A9, 8 A8, 11 !WE, 16 A18, 17 A17, 18 A7, 19 A6, 20 A5, 21 A4, 22 A3, 23 A2, 24 A1, 25 A0, 26 !CE, 27 GND@1 (power), 28 !OE, 29 D0, 30 D8, 31 D1, 32 D9, 33 D2, 34 D10, 35 D3, 36 D11, 37 VDD@1 (power), 38 D4, 39 D12, 40 D5, 41 D13, 42 D6, 43 D14, 44 D7, 45 D15, 46 GND@2 (power), 48 A16

## SST39VF010B3
designator IC?, comment 1 Mbit x8 Multi-Purpose Flash   Source: http://www.sst.com/dotAsset/40782.pdf  (value not drawn)
footprint TFBGA48
part A pins: A1 A3, A2 A7, A4 !WE, A5 A9, A6 A14, B1 A4, B5 A8, B6 A13, C1 A2, C2 A6, C5 A11, C6 A15, D1 A1, D2 A5, D5 A12, D6 A16, E1 A0, E2 D0, E3 D2, E4 D5, F1 !CE, F3 D3, F5 A10, G1 !OE, G5 D6, H2 D1, H4 D4, H5 D7
part B pins: G3 VCC@1 (power), G4 VCC@2 (power), H1 GND@1 (power), H6 GND@2 (power)

## SST39VF010N
designator IC?, comment 1 Mbit x8 Multi-Purpose Flash   Source: http://www.sst.com/dotAsset/40782.pdf  (value not drawn)
footprint PLCC32R
part A pins: 2 A16, 3 A15, 4 A12, 5 A7, 6 A6, 7 A5, 8 A4, 9 A3, 10 A2, 11 A1, 12 A0, 13 D0, 14 D1, 15 D2, 17 D3, 18 D4, 19 D5, 20 D6, 21 D7, 22 !CE, 23 A10, 24 !OE, 25 A11, 26 A9, 27 A8, 28 A13, 29 A14, 31 !WE
part B pins: 16 GND (power), 32 VCC (power)

## SST39VF010W
designator IC?, comment 1 Mbit x8 Multi-Purpose Flash   Source: http://www.sst.com/dotAsset/40782.pdf  (value not drawn)
footprint TSOP32
part A pins: 1 A11, 2 A9, 3 A8, 4 A13, 5 A14, 7 !WE, 10 A16, 11 A15, 12 A12, 13 A7, 14 A6, 15 A5, 16 A4, 17 A3, 18 A2, 19 A1, 20 A0, 21 D0, 22 D1, 23 D2, 25 D3, 26 D4, 27 D5, 28 D6, 29 D7, 30 !CE, 31 A10, 32 !OE
part B pins: 8 VCC (power), 24 GND (power)

## SST39VF020B3
designator IC?, comment 2 Mbit x8 Multi-Purpose Flash   Source: http://www.sst.com/dotAsset/40782.pdf  (value not drawn)
footprint TFBGA48
part A pins: A1 A3, A2 A7, A4 !WE, A5 A9, A6 A14, B1 A4, B5 A8, B6 A13, C1 A2, C2 A6, C5 A11, C6 A15, D1 A1, D2 A5, D5 A12, D6 A16, E1 A0, E2 D0, E3 D2, E4 D5, E6 A17, F1 !CE, F3 D3, F5 A10, G1 !OE, G5 D6, H2 D1, H4 D4, H5 D7
part B pins: G3 VCC@1 (power), G4 VCC@2 (power), H1 GND@1 (power), H6 GND@2 (power)

## SST39VF020N
designator IC?, comment 2 Mbit x8 Multi-Purpose Flash   Source: http://www.sst.com/dotAsset/40782.pdf  (value not drawn)
footprint PLCC32R
part A pins: 2 A16, 3 A15, 4 A12, 5 A7, 6 A6, 7 A5, 8 A4, 9 A3, 10 A2, 11 A1, 12 A0, 13 D0, 14 D1, 15 D2, 17 D3, 18 D4, 19 D5, 20 D6, 21 D7, 22 !CE, 23 A10, 24 !OE, 25 A11, 26 A9, 27 A8, 28 A13, 29 A14, 30 A17, 31 !WE
part B pins: 16 GND (power), 32 VCC (power)

## SST39VF020W
designator IC?, comment 2 Mbit x8 Multi-Purpose Flash   Source: http://www.sst.com/dotAsset/40782.pdf  (value not drawn)
footprint TSOP32
part A pins: 1 A11, 2 A9, 3 A8, 4 A13, 5 A14, 6 A17, 7 !WE, 10 A16, 11 A15, 12 A12, 13 A7, 14 A6, 15 A5, 16 A4, 17 A3, 18 A2, 19 A1, 20 A0, 21 D0, 22 D1, 23 D2, 25 D3, 26 D4, 27 D5, 28 D6, 29 D7, 30 !CE, 31 A10, 32 !OE
part B pins: 8 VCC (power), 24 GND (power)

## SST39VF040B3
designator IC?, comment 4 Mbit x8 Multi-Purpose Flash   Source: http://www.sst.com/dotAsset/40782.pdf  (value not drawn)
footprint TFBGA48
part A pins: A1 A3, A2 A7, A4 !WE, A5 A9, A6 A14, B1 A4, B2 A18, B5 A8, B6 A13, C1 A2, C2 A6, C5 A11, C6 A15, D1 A1, D2 A5, D5 A12, D6 A16, E1 A0, E2 D0, E3 D2, E4 D5, E6 A17, F1 !CE, F3 D3, F5 A10, G1 !OE, G5 D6, H2 D1, H4 D4, H5 D7
part B pins: G3 VCC@1 (power), G4 VCC@2 (power), H1 GND@1 (power), H6 GND@2 (power)

## SST39VF040N
designator IC?, comment 4 Mbit x8 Multi-Purpose Flash   Source: http://www.sst.com/dotAsset/40782.pdf  (value not drawn)
footprint PLCC32R
part A pins: 1 A18, 2 A16, 3 A15, 4 A12, 5 A7, 6 A6, 7 A5, 8 A4, 9 A3, 10 A2, 11 A1, 12 A0, 13 D0, 14 D1, 15 D2, 17 D3, 18 D4, 19 D5, 20 D6, 21 D7, 22 !CE, 23 A10, 24 !OE, 25 A11, 26 A9, 27 A8, 28 A13, 29 A14, 30 A17, 31 !WE
part B pins: 16 GND (power), 32 VCC (power)

## SST39VF040W
designator IC?, comment 4 Mbit x8 Multi-Purpose Flash   Source: http://www.sst.com/dotAsset/40782.pdf  (value not drawn)
footprint TSOP32
part A pins: 1 A11, 2 A9, 3 A8, 4 A13, 5 A14, 6 A17, 7 !WE, 9 A18, 10 A16, 11 A15, 12 A12, 13 A7, 14 A6, 15 A5, 16 A4, 17 A3, 18 A2, 19 A1, 20 A0, 21 D0, 22 D1, 23 D2, 25 D3, 26 D4, 27 D5, 28 D6, 29 D7, 30 !CE, 31 A10, 32 !OE
part B pins: 8 VCC (power), 24 GND (power)

## SST39VF512N
designator IC?, comment 512 Kbit x8 Multi-Purpose Flash   Source: http://www.sst.com/dotAsset/40782.pdf  (value not drawn)
footprint PLCC32R
part A pins: 3 A15, 4 A12, 5 A7, 6 A6, 7 A5, 8 A4, 9 A3, 10 A2, 11 A1, 12 A0, 13 D0, 14 D1, 15 D2, 17 D3, 18 D4, 19 D5, 20 D6, 21 D7, 22 !CE, 23 A10, 24 !OE, 25 A11, 26 A9, 27 A8, 28 A13, 29 A14, 31 !WE
part B pins: 16 GND (power), 32 VCC (power)

## SST39VF512W
designator IC?, comment 512 Kbit x8 Multi-Purpose Flash   Source: http://www.sst.com/dotAsset/40782.pdf  (value not drawn)
footprint TSOP32
part A pins: 1 A11, 2 A9, 3 A8, 4 A13, 5 A14, 7 !WE, 11 A15, 12 A12, 13 A7, 14 A6, 15 A5, 16 A4, 17 A3, 18 A2, 19 A1, 20 A0, 21 D0, 22 D1, 23 D2, 25 D3, 26 D4, 27 D5, 28 D6, 29 D7, 30 !CE, 31 A10, 32 !OE
part B pins: 8 VCC (power), 24 GND (power)

## TC55257DF
designator IC?, comment MEMORY
footprint SOP28X
part A pins: 14 GND (power), 28 VCC (power)
part B pins: 1 A14, 2 A12, 3 A7, 4 A6, 5 A5, 6 A4, 7 A3, 8 A2, 9 A1, 10 A0, 11 O0 (hiz), 12 O1 (hiz), 13 O2 (hiz), 15 O3 (hiz), 16 O4 (hiz), 17 O5 (hiz), 18 O6 (hiz), 19 O7 (hiz), 20 !CE, 21 A10, 22 !OE, 23 A11, 24 A9, 25 A8, 26 A13, 27 !RW

## TC55257DP
designator IC?, comment MEMORY  (value not drawn)
footprint DIL28
part A pins: 1 A14, 2 A12, 3 A7, 4 A6, 5 A5, 6 A4, 7 A3, 8 A2, 9 A1, 10 A0, 11 O0 (hiz), 12 O1 (hiz), 13 O2 (hiz), 15 O3 (hiz), 16 O4 (hiz), 17 O5 (hiz), 18 O6 (hiz), 19 O7 (hiz), 20 !CE, 21 A10, 22 !OE, 23 A11, 24 A9, 25 A8, 26 A13, 27 !RW
part B pins: 14 GND (power), 28 VCC (power)

## TC551001CF
designator IC?, comment MEMORY
footprint SOP32L
part A pins: 16 GND (power), 32 VCC (power)
part B pins: 1 NC
part C pins: 2 A16, 3 A14, 4 A12, 5 A7, 6 A6, 7 A5, 8 A4, 9 A3, 10 A2, 11 A1, 12 A0, 13 O0 (hiz), 14 O1 (hiz), 15 O2 (hiz), 17 O3 (hiz), 18 O4 (hiz), 19 O5 (hiz), 20 O6 (hiz), 21 O7 (hiz), 22 !CE1, 23 A10, 24 !OE, 25 A11, 26 A9, 27 A8, 28 A13, 29 !RW, 30 CE2, 31 A15

## TC551001CP
designator IC?, comment MEMORY  (value not drawn)
footprint DIL32
part A pins: 2 A16, 3 A14, 4 A12, 5 A7, 6 A6, 7 A5, 8 A4, 9 A3, 10 A2, 11 A1, 12 A0, 13 O0 (hiz), 14 O1 (hiz), 15 O2 (hiz), 17 O3 (hiz), 18 O4 (hiz), 19 O5 (hiz), 20 O6 (hiz), 21 O7 (hiz), 22 !CE1, 23 A10, 24 !OE, 25 A11, 26 A9, 27 A8, 28 A13, 29 !RW, 30 CE2, 31 A15
part B pins: 16 GND (power), 32 VCC (power)
part C pins: 1 NC

## XL78C800
designator IC?, comment MEMORY  (value not drawn)
footprint DIL24
part A pins: 1 CLK, 2 I0, 3 I1, 4 I2, 5 I3, 6 I4, 7 I5, 8 I6, 9 I7, 10 I8, 11 I9, 13 !OE, 14 O9, 15 O8 (hiz), 16 O7 (hiz), 17 O6 (hiz), 18 O5 (hiz), 19 O4 (hiz), 20 O3 (hiz), 21 O2 (hiz), 22 O1 (hiz), 23 O0
part B pins: 12 GND (power), 24 VCC (power)